# Altium schematic symbol library Connector.SchLib: 145 symbols (part 2 of 2)
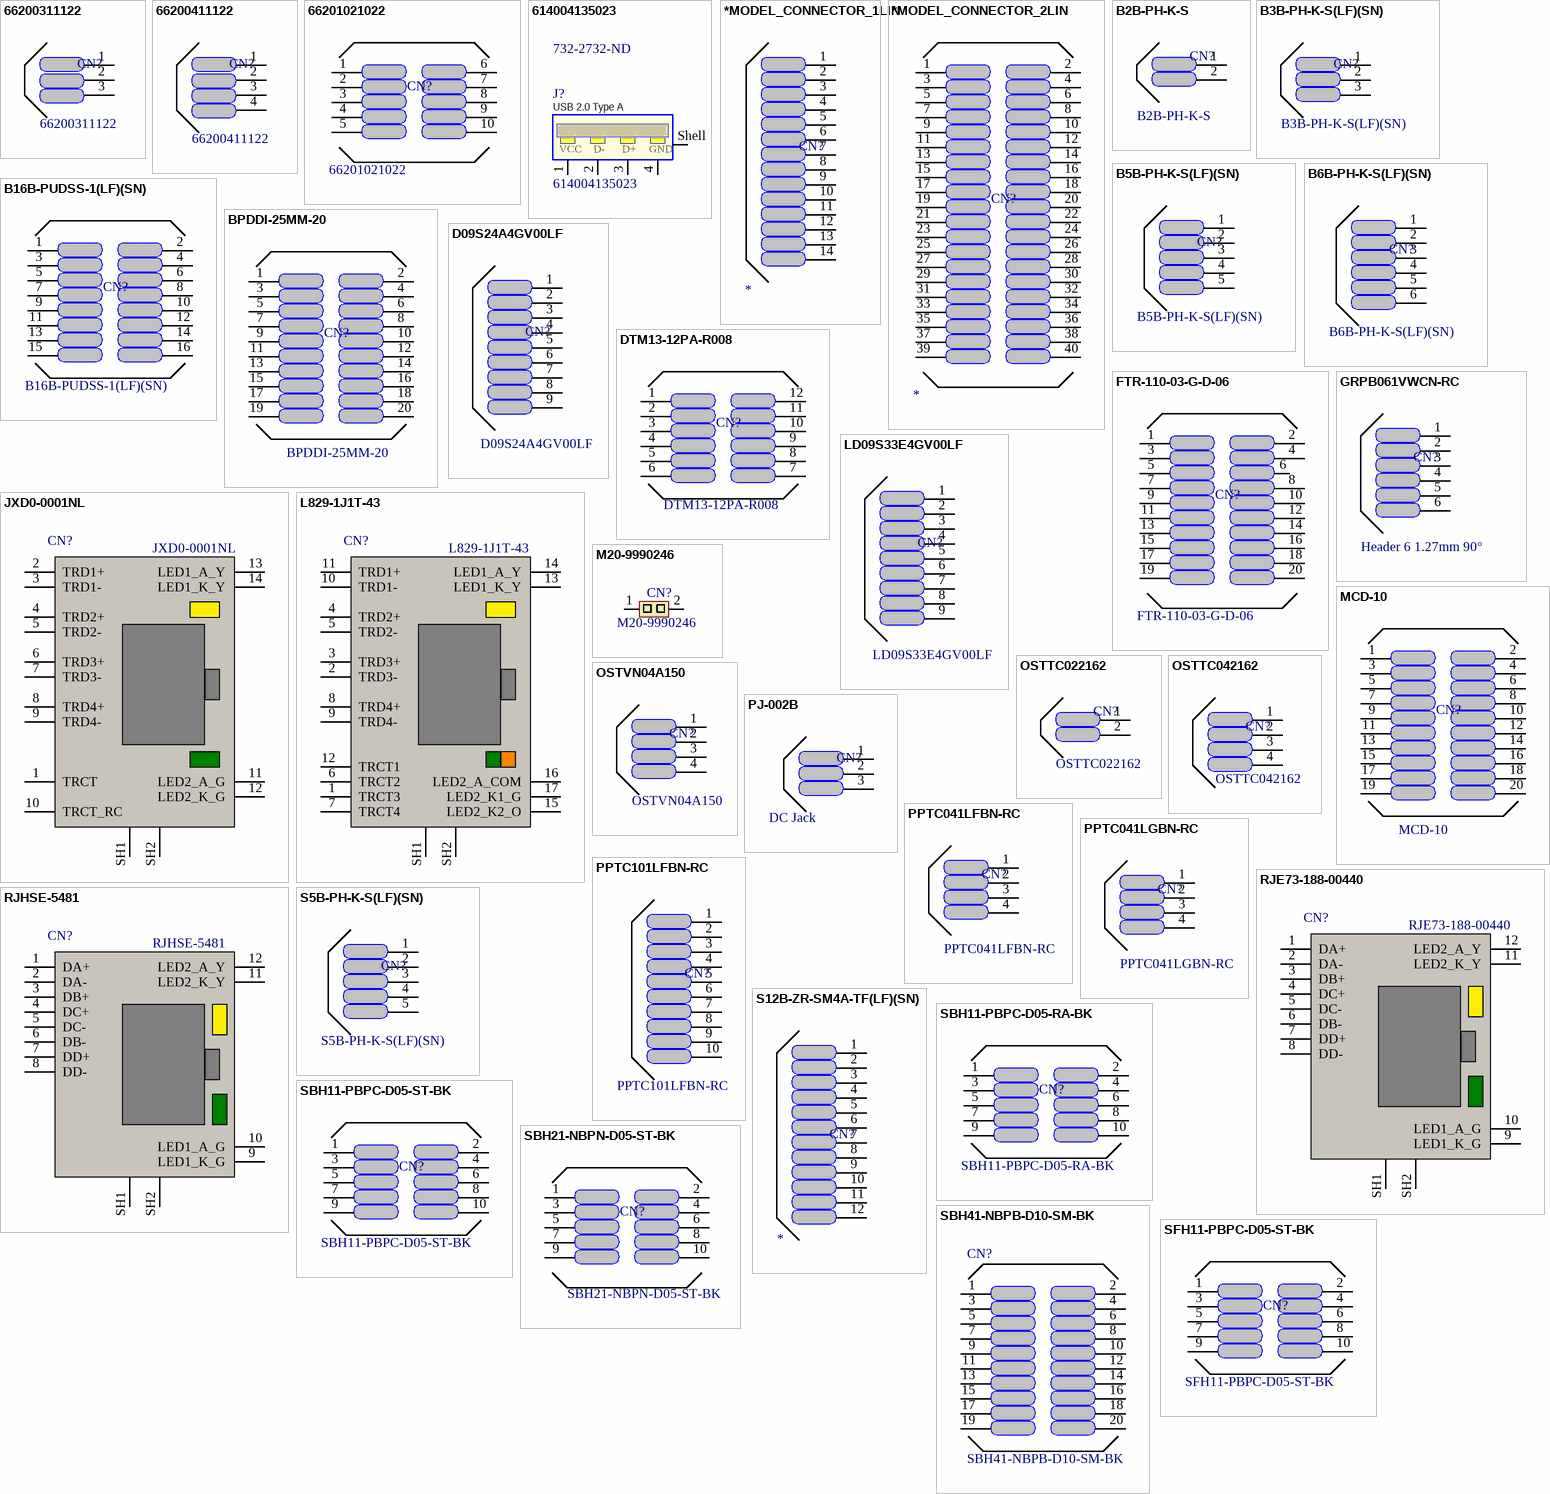
[diagram p5: symbols 66200311122 to SFH11-PBPC-D05-ST-BK]

## MCD-10
designator CN?
HEADER 2x10 8.5MM LENGTH 2.54MM PITCH; Manufacturer: Metaltex; N of Positions: 20; Pitch: 2.54mm; Mount Type: PTH; Value: MCD-10
footprint HEADER 2X10 2.54mm 180 GRAUS 8.5mm length (HEADER 5 2.54mm 180 GRAUS)
pins: 1, 2, 3, 4, 5, 6, 7, 8, 9, 10, 11, 12, 13, 14, 15, 16, 17, 18, 19, 20

## OSTTC022162
designator CN?
TERM BLOCK 5.08MM VERT 2POS PCB; Manufacturer: On Shore Technology Inc.; N of Positions: 2; Pitch: 5.08mm; Mount Type: PTH; Supplier 1: Digi-Key; Supplier Part Number 1: ED2609-ND; Supplier 2: Mouser; Supplier Part Number 2: Anonymous Daily Limit Reached; Supplier 3: Newark; Supplier Part Number 3: 18M9779; Supplier 4: Farnell; Supplier Part Number 4: 1386121; Value: OSTTC022162
footprint TBLOCK 2x5.08
pins: 1, 2

## OSTTC042162
designator CN?
TERM BLOCK 5.08MM VERT 4POS PCB; Manufacturer: On Shore Technology Inc.; N of Positions: 4; Pitch: 5.08mm; Mount Type: PTH; Supplier 1: Digi-Key; Supplier Part Number 1: ED2611-ND; Value: OSTTC042162
footprint TBLOCK 4x5.08
pins: 1, 2, 3, 4

## OSTVN04A150
designator CN?
CONN TERM BLOCK 2.54MM 4POS PCB; Manufacturer: On Shore Technology Inc.; N of Positions: 4; Pitch: 2.54mm; Mount Type: PTH; Supplier 1: Digi-Key; Supplier Part Number 1: ED10563-ND; Supplier 2: Farnell; Supplier Part Number 2: 3041414; Value: OSTVN04A150
footprint TBLOCK 4x2.54
pins: 1, 2, 3, 4

## PJ-002B
designator CN?  value DC Jack  (hidden comment: PJ-002B)
CONN POWER JACK MALE 2.5MM CLSD; Manufacturer: CUI Inc; N of Positions: 3; Pitch: 2.5mm; Mount Type: PTH; Supplier 1: Mouser; Supplier Part Number 1: 490-PJ-002B; Supplier 2: Digi-Key; Supplier Part Number 2: CP-002B-ND
footprint DC Jack
pins: 1, 2, 3

## PPTC041LFBN-RC
designator CN?
CONN RECEPT 4POS .100 VERT TIN; Manufacturer: Sullins Connector Solutions; N of Positions: 4; Pitch: 2.54mm; Mount Type: PTH; Supplier 1: Digi-Key; Supplier Part Number 1: S7002-ND; Supplier 2: Newark; Supplier Part Number 2: 38K5904; Supplier 3: Farnell; Supplier Part Number 3: 7991932; Value: PPTC041LFBN-RC
footprint HEADER 4 2.54mm 180 GRAUS
pins: 1, 2, 3, 4

## PPTC041LGBN-RC
designator CN?
CONN RECEPT 4POS .100 RGT ANGLE TIN; Manufacturer: Sullins Connector Solutions; N of Positions: 4; Pitch: 2.54mm; Mount Type: PTH; Supplier 1: Digi-Key; Supplier Part Number 1: S5440-ND; Supplier 2: Newark; Supplier Part Number 2: 11P9381; Supplier 3: Farnell; Supplier Part Number 3: 1668345; Value: PPTC041LGBN-RC
footprint HEADER 4 2.54mm 90 GRAUS
pins: 1, 2, 3, 4

## PPTC101LFBN-RC
designator CN?
CONN RECEPT 10POS .100 VERT PTH; Manufacturer: Sullins Connector Solutions; N of Positions: 10; Pitch: 2.54mm; Mount Type: PTH; Supplier 1: Digi-Key; Supplier Part Number 1: S7008-ND; Value: PPTC101LFBN-RC
footprint HEADER 10 2.54mm 180 GRAUS
pins: 1, 2, 3, 4, 5, 6, 7, 8, 9, 10

## RJE73-188-00440
designator CN?
CONN MOD JACK 8P8C R/A SHIELDED; Manufacturer: Amphenol Commercial Products; N of Positions: 12; Pitch: 2.03mm; Mount Type: PTH; Supplier 1: Newark; Supplier Part Number 1: 47W2109; Supplier 2: Mouser; Supplier Part Number 2: 523-RJE7318800440; Supplier 3: Digi-Key; Supplier Part Number 3: RJE73-188-00440CT-ND; Value: RJE73-188-00440
footprint RJ45 RJE73-188
pins: 1 DA+, 2 DA-, 3 DB+, 4 DC+, 5 DC-, 6 DB-, 7 DD+, 8 DD-, 9 LED1_K_G, 10 LED1_A_G, 11 LED2_K_Y, 12 LED2_A_Y, SH1, SH2

## RJHSE-5481
designator CN?
CONN MOD JACK 8P8C R/A SHIELDED; Manufacturer: Amphenol Commercial Products; N of Positions: 12; Pitch: 2.03mm; Mount Type: PTH; Supplier 1: Digikey; Supplier Part Number 1: RJHSE-5481-ND; Supplier 2: Newark; Supplier Part Number 2: 39M1073; Supplier 3: Arrow; Supplier Part Number 3: RJHSE5481; Supplier 4: Farnell; Supplier Part Number 4: 2095417; Value: RJHSE-5481
footprint RJ45 RJHSE-5481
pins: 1 DA+, 2 DA-, 3 DB+, 4 DC+, 5 DC-, 6 DB-, 7 DD+, 8 DD-, 9 LED1_K_G, 10 LED1_A_G, 11 LED2_K_Y, 12 LED2_A_Y, SH1, SH2

## S5B-PH-K-S(LF)(SN)
designator CN?
CONN HEADER PH SIDE 5POS 2MM; Manufacturer: JST Sales America Inc; N of Positions: 5; Pitch: 2mm; Mount Type: PTH; Supplier 1: Digikey; Supplier 2: Newark; Supplier 3: Farnell; Supplier Part Number 1: 455-1722-ND; Supplier Part Number 2: 38K8078; Supplier Part Number 3: 9492496; Value: S5B-PH-K-S(LF)(SN)
footprint HEADER PH 90 5POS 2MM
pins: 1, 2, 3, 4, 5

## S12B-ZR-SM4A-TF(LF)(SN)
designator CN?  (value not drawn)
CONN HEADER ZH SIDE 12POS 1.5MM; Manufacturer: Molex, LLC; N of Positions: 12; Pitch: 0.059" (1.50mm); Mount Type: SMD; Supplier 1: Digi-Key; Supplier Part Number 1: 455-1702-6-ND; Supplier 2: Digi-Key; Supplier Part Number 2: 455-1702-1-ND; Value: *
footprint S12B-ZR-SM4A-TF(LF)(SN)
pins: 1, 2, 3, 4, 5, 6, 7, 8, 9, 10, 11, 12

## SBH11-PBPC-D05-RA-BK
designator CN?
CONN HEADR 2.54MM 10POS GOLD R/A; Manufacturer: Sullins Connector Solutions; N of Positions: 10; Pitch: 2.54; Mount Type: SMD; Supplier 1: Digi-Key; Supplier Part Number 1: S9177-ND; Value: SBH11-PBPC-D05-RA-BK
footprint HEADER 2X5 2.54mm 90 GRAUS SHROUDED (HEADER 2X5 1.27mm 90 GRAUS SHROUDED)
pins: 1, 2, 3, 4, 5, 6, 7, 8, 9, 10

## SBH11-PBPC-D05-ST-BK
designator CN?
CONN HEADER 2.54MM 10POS GOLD; Manufacturer: Sullins Connector Solutions; N of Positions: 10; Pitch: 2.54; Mount Type: SMD; Supplier 1: Digi-Key; Supplier Part Number 1: S9169-ND; Value: SBH11-PBPC-D05-ST-BK
footprint HEADER 2X5 2.54mm 180 GRAUS SHROUDED (HEADER 2X5 1.27mm 180 GRAUS SHROUDED)
pins: 1, 2, 3, 4, 5, 6, 7, 8, 9, 10

## SBH21-NBPN-D05-ST-BK
designator CN?
CONN HEAD 2MM 10POS GOLD; Manufacturer: FCI; N of Positions: 10; Pitch: 2mm; Mount Type: PTH; Supplier 1: Digi-Key; Supplier Part Number 1: S9018-ND; Value: SBH21-NBPN-D05-ST-BK
footprint HEADER 2X5 2mm 180 GRAUS
pins: 1, 2, 3, 4, 5, 6, 7, 8, 9, 10

## SBH41-NBPB-D10-SM-BK
designator CN?
CONN HEADR 1.27MM 20POS GOLD SMD; Manufacturer: Sullins Connector Solutions; N of Positions: 20; Roll Spacing: 2.54mm; Pitch: 1.27mm; Mount Type: SMD; Supplier 1: Digi-Key; Supplier Part Number 1: S9134-ND; Value: SBH41-NBPB-D10-SM-BK
footprint HEADER SMD 2X10 1.27mm 180 GRAUS 2.54mm row spacing shrouded
pins: 1, 2, 3, 4, 5, 6, 7, 8, 9, 10, 11, 12, 13, 14, 15, 16, 17, 18, 19, 20

## SFH11-PBPC-D05-ST-BK
designator CN?
CONN HEADER 2.54MM 10POS GOLD; Manufacturer: Sullins Connector Solutions; N of Positions: 10; Pitch: 2.54; Mount Type: SMD; Supplier 1: Digi-Key; Supplier Part Number 1: S9194-ND; Value: SFH11-PBPC-D05-ST-BK
footprint HEADER 2X5 2.54mm 180 GRAUS UNSHROUDED FEMALE
pins: 1, 2, 3, 4, 5, 6, 7, 8, 9, 10

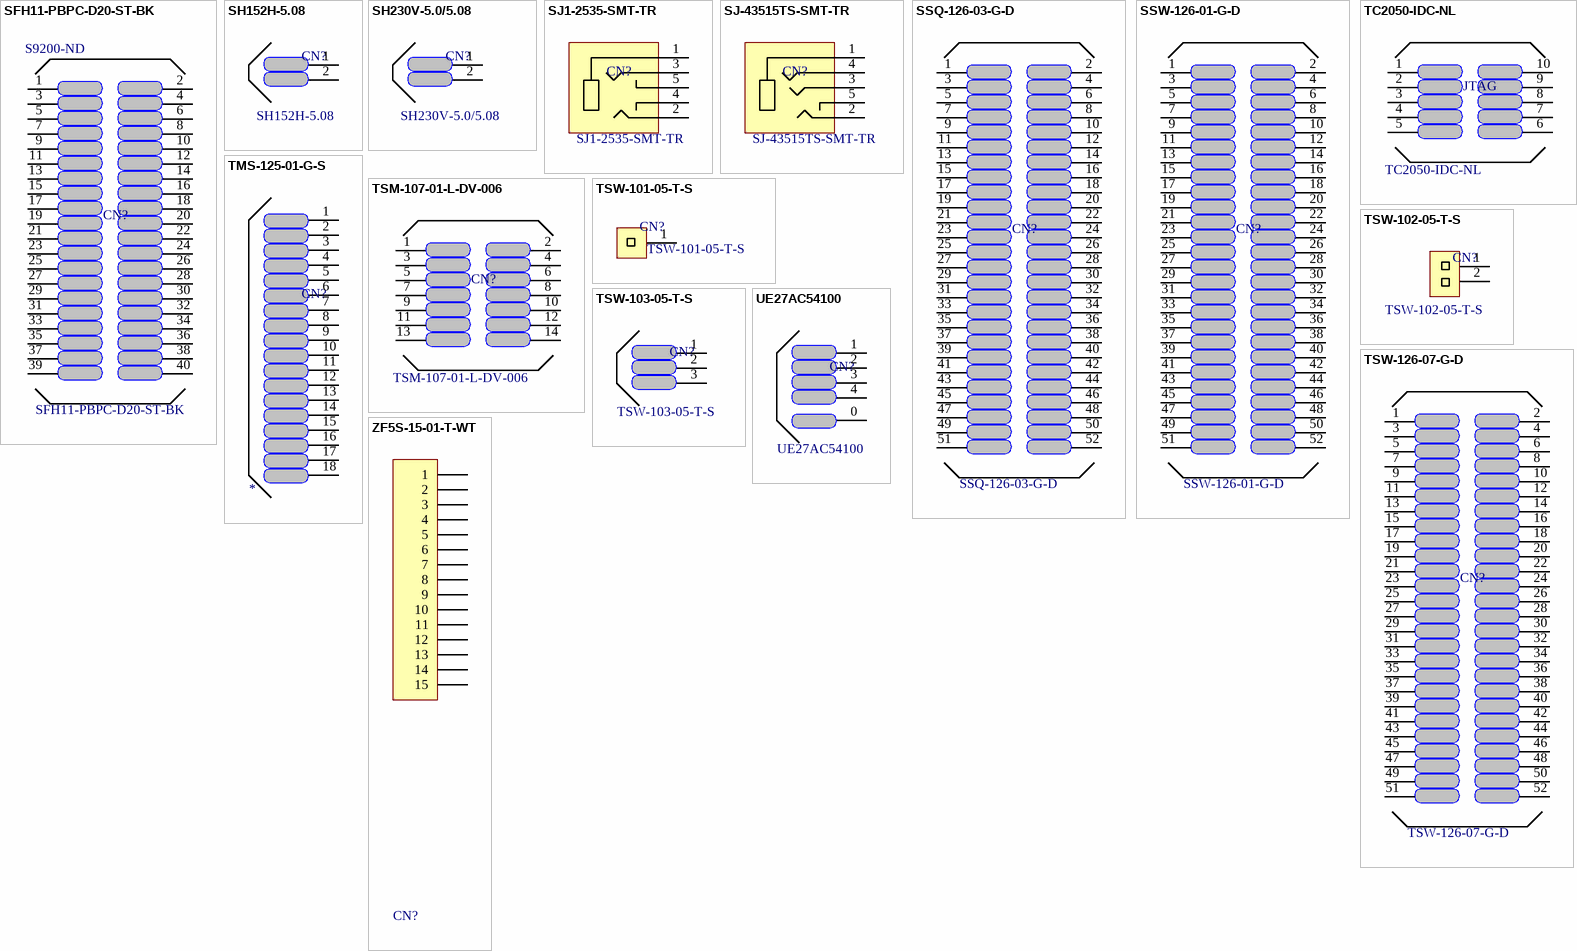
[diagram p4: symbols SFH11-PBPC-D20-ST-BK to ZF5S-15-01-T-WT]

## SFH11-PBPC-D20-ST-BK
designator CN?  Supplier Part Number 1: S9200-ND  (hidden comment: SFH11-PBPC-D20-ST-BK)
40 Position Header Connector 0.100" (2.54mm) Through Hole Gold; Manufacturer: Sullins Connector Solutions; N of Positions: 40; Pitch: 2.54mm; Mount Type: PTH; Supplier 1: Digi-Key; Value: SFH11-PBPC-D20-ST-BK
footprint HEADER 2X20 2.54mm 180 GRAUS 8.5mm length (HEADER 5 2.54mm 180 GRAUS)
pins: 1, 2, 3, 4, 5, 6, 7, 8, 9, 10, 11, 12, 13, 14, 15, 16, 17, 18, 19, 20, 21, 22, 23, 24, 25, 26, 27, 28, 29, 30, 31, 32, 33, 34, 35, 36, 37, 38, 39, 40

## SH152H-5.08
designator CN?
Terminal block 5.08mm; Manufacturer: Sanhe; N of Positions: 2; Pitch: 5.08mm; Mount Type: PTH; Value: SH152H-5.08
footprint SANHE SH152H-5.08
pins: 1, 2

## SH230V-5.0/5.08
designator CN?
Pluggable terminal block 5.0/5.08mm the header part; Manufacturer: Sanhe; N of Positions: 2; Pitch: 5.08mm; Mount Type: PTH; Value: SH230V-5.0/5.08
footprint SANHE SH230V-5.0/5.08
pins: 1, 2

## SJ1-2535-SMT-TR
designator CN?
CONN JACK STEREO 5PIN 2.5MM SMD; Manufacturer: CUI Inc; N of Positions: 5; Pitch: -; Mount Type: SMD; Supplier 1: Digi-Key; Supplier Part Number 1: CP1-2535SJCT-ND; Value: SJ1-2535-SMT-TR
footprint AUDIO JACK 2.5MM SJ1-2535-SMT-TR
pins: 1, 2, 3, 4, 5

## SJ-43515TS-SMT-TR
designator CN?
CONN AUDIO JACK 3.5MM 4COND SMD; Manufacturer: CUI Inc; N of Positions: 5; Pitch: -; Mount Type: SMD; Supplier 1: Mouser; Supplier 2: Digi-Key; Supplier Part Number 1: 490-SJ43515TS-SMT-TR; Supplier Part Number 2: CP-43515TSSJCT-ND; Value: SJ-43515TS-SMT-TR
footprint AUDIO JACK 3.5MM SJ-43515TS-SMT-TR
pins: 1, 2, 3, 4, 5

## SSQ-126-03-G-D
designator CN?
CONN RCPT 52POS 0.1 GOLD PCB; Manufacturer: Samtec Inc.; N of Positions: 52; Pitch: 2.54mm; Mount Type: PTH; Value: SSQ-126-03-G-D
footprint HEADER 2X26 2.54mm 180 GRAUS 8.5mm length 10mm contacts length (HEADER 5 2.54mm 180 GRAUS)
pins: 1, 2, 3, 4, 5, 6, 7, 8, 9, 10, 11, 12, 13, 14, 15, 16, 17, 18, 19, 20, 21, 22, 23, 24, 25, 26, 27, 28, 29, 30, 31, 32, 33, 34, 35, 36, 37, 38, 39, 40, 41, 42, 43, 44, 45, 46, 47, 48, 49, 50, 51, 52

## SSW-126-01-G-D
designator CN?
CONN RCPT 52POS 0.1 GOLD PCB; Manufacturer: Samtec Inc.; N of Positions: 52; Pitch: 2.54mm; Mount Type: PTH; Value: SSW-126-01-G-D
footprint HEADER 2X26 2.54mm 180 GRAUS 8.5mm length 2.64mm contacts length (HEADER 5 2.54mm 180 GRAUS)
pins: 1, 2, 3, 4, 5, 6, 7, 8, 9, 10, 11, 12, 13, 14, 15, 16, 17, 18, 19, 20, 21, 22, 23, 24, 25, 26, 27, 28, 29, 30, 31, 32, 33, 34, 35, 36, 37, 38, 39, 40, 41, 42, 43, 44, 45, 46, 47, 48, 49, 50, 51, 52

## TC2050-IDC-NL
designator JTAG  (no BOM)
CBL PLUG-OF-NAILS 10-PIN; Manufacturer: Tag-Connect LLC; N of Positions: 10; Pitch: 1.27mm; Mount Type: SMD; Supplier 1: Digi-Key; Supplier Part Number 1: TC2050-IDC-NL-ND; Value: TC2050-IDC-NL
footprint TC2050-IDC-NL
pins: 1, 2, 3, 4, 5, 6, 7, 8, 9, 10

## TMS-125-01-G-S
designator CN?  (value not drawn)
CONN HEADER VERT SGL 18POS GOLD; Manufacturer: Samtec Inc.; N of Positions: 18; Pitch: 0.050" (1.27mm); Mount Type: Through Hole; Supplier 1: Digi-Key; Supplier Part Number 1: SAM8878-ND; Supplier 2: Arrow; Supplier Part Number 2: aVaFlgLLU0A_1Y-lVkyRm2cUsrlwONEfi0g9H_BYpsw; Value: *
footprint TMS-118-01-G-S (Connector; Header; 18 Position)
pins: 1, 2, 3, 4, 5, 6, 7, 8, 9, 10, 11, 12, 13, 14, 15, 16, 17, 18

## TSM-107-01-L-DV-006
designator CN?
.025 SQ. TERMINAL STRIPS; Manufacturer: Samtec Inc.; N of Positions: 14; Pitch: 2.54mm; Mount Type: SMD; Supplier 1: Arrow; Supplier Part Number 1: TSM-107-01-L-DV-006; Supplier 2: Newark; Supplier Part Number 2: 77P9270; Supplier 3: Digi-Key; Supplier Part Number 3: SAM10289-ND; Value: TSM-107-01-L-DV-006
footprint HEADER SMD 2X7 2.54mm 180 GRAUS
pins: 1, 2, 3, 4, 5, 6, 7, 8, 9, 10, 11, 12, 13, 14

## TSW-101-05-T-S
designator CN?
CONN HEADER 1POS .100" SNGL TIN; Manufacturer: Samtec Inc; N of Positions: 2; Pitch: 2.54mm; Mount Type: PTH; Supplier 1: Farnell; Supplier Part Number 1: 1925384; Supplier 2: Newark; Supplier Part Number 2: 84T5043; Supplier 3: Digi-Key; Supplier Part Number 3: SAM1019-02-ND; Supplier 4: Arrow; Supplier Part Number 4: T9xGEsh_w6igb0LY4EP_nwsWhIkhCEmR3qLYTGm2XzA; Supplier 5: Digi-Key; Supplier Part Number 5: SAM1019-01-ND; Supplier 6: Newark; Supplier Part Number 6: 69X6269; Value: TSW-101-05-T-S
footprint PIN BAR 1 2.54mm 180 GRAUS (HEADER 1 2.54mm 180 GRAUS)
footprint PIN BAR 1 2.54mm 180 GRAUS - Hide (HEADER 1 2.54mm 180 GRAUS)
pins: 1

## TSW-102-05-T-S
designator CN?
CONN HEADER 2POS .100" SNGL TIN; Manufacturer: Samtec Inc; N of Positions: 2; Pitch: 2.54mm; Mount Type: PTH; Supplier 1: Farnell; Supplier Part Number 1: 1925384; Supplier 2: Newark; Supplier Part Number 2: 84T5043; Supplier 3: Digi-Key; Supplier Part Number 3: SAM1019-02-ND; Value: TSW-102-05-T-S
footprint PIN BAR 2 2.54mm 180 GRAUS (HEADER 2 2.54mm 180 GRAUS)
pins: 1, 2

## TSW-103-05-T-S
designator CN?
CONN HEADER 3POS .100" SNGL TIN; Manufacturer: Samtec Inc; N of Positions: 3; Pitch: 2.54mm; Mount Type: PTH; Supplier 1: Farnell; Supplier Part Number 1: 1925517; Supplier 2: Digi-Key; Supplier Part Number 2: SAM1019-03-ND; Supplier 3: Newark; Supplier Part Number 3: 84T5317; Value: TSW-103-05-T-S
footprint PIN BAR 3 2.54mm 180 GRAUS (HEADER 3 2.54mm 180 GRAUS)
pins: 1, 2, 3

## TSW-126-07-G-D
designator CN?
CONN HEADER VERT 52POS 2.54MM; Manufacturer: Samtec Inc.; N of Positions: 52; Pitch: 2.54mm; Mount Type: PTH; Value: TSW-126-07-G-D
footprint PIN BAR 2X26 2.54mm 180 GRAUS 2.54mm length 5.84 contacts lenght
pins: 1, 2, 3, 4, 5, 6, 7, 8, 9, 10, 11, 12, 13, 14, 15, 16, 17, 18, 19, 20, 21, 22, 23, 24, 25, 26, 27, 28, 29, 30, 31, 32, 33, 34, 35, 36, 37, 38, 39, 40, 41, 42, 43, 44, 45, 46, 47, 48, 49, 50, 51, 52

## UE27AC54100
designator CN?
CONN RCPT USB TYPE A R/A GOLD; Manufacturer: Amphenol Commercial Products; N of Positions: 4; Pitch: 2mm; Mount Type: PTH; Supplier 1: Digi-Key; Supplier Part Number 1: UE27AC54100-ND; Supplier 2: Newark; Supplier Part Number 2: 86K9575; Supplier 3: Allied; Supplier Part Number 3: 70323399; Supplier 4: Farnell; Supplier Part Number 4: 2709068; Supplier 5: Farnell; Supplier Part Number 5: 2134385; Value: UE27AC54100
footprint USB A PTH 90 R/A
pins: 0, 1, 2, 3, 4

## ZF5S-15-01-T-WT
designator CN?  (value not drawn)
ZERO INSERTION FORCE .5MM ASSY; Manufacturer: Samtec Inc.; Supplier 1: Digi-Key; Supplier Part Number 1: SAM10388-ND; Supplier 2: Farnell; Supplier Part Number 2: 1846439; Supplier 3: Newark; Supplier Part Number 3: 16R9542
footprint ZF5S-15-01-T-WT
pins: 1, 2, 3, 4, 5, 6, 7, 8, 9, 10, 11, 12, 13, 14, 15